# Altium footprint library Zener Diode 30V.PcbLib: 2 footprints
Each footprint in its own frame and in the unit in brackets; x right, y up, seen from the top. Pads: shape width x height; smd on the part's side, far side on the other; paste and mask are expansions set on the pad; w line width, h text height; cw(c..) or ccw(c..) is an arc to the next point about the centre after c.
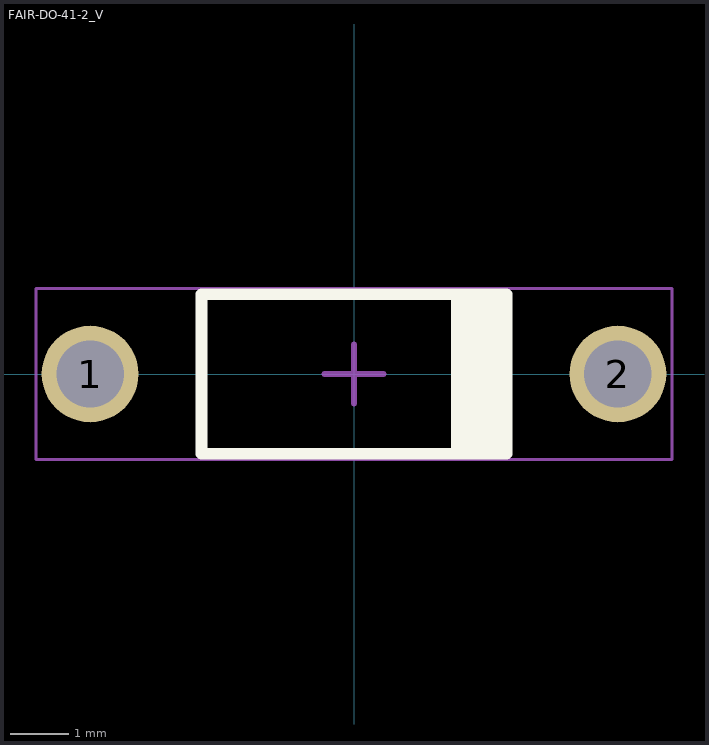
[diagram p0: the footprints below, top view; thin cyan lines are the x and y axes]

## FAIR-DO-41-2_V [mm] "2-Leads, Axial leaded, Body 2.72x5.2mm, Pin Spacing 9mm"
height 2.72
pads (2):
  round 1.65 hole 1.15: 1(-4.5,0) 2(4.5,0)
Top Overlay:
  rectangle: 1.651,-1.357 2.6,1.36
  lines w0.2: -2.6,-1.36 -2.6,1.36 2.6,1.36 2.6,-1.36 -2.6,-1.36
Mechanical 13:
  lines w0.1: -2.6,-1.36 2.6,-1.36 2.6,1.36 -2.6,1.36 -2.6,-1.36
Mechanical 15:
  lines w0.05: -5.425,-1.46 -5.425,1.46 5.425,1.46 5.425,-1.46 -5.425,-1.46
  lines w0.1: -0.5,0 0.5,0 ; 0,-0.5 0,0.5
3D body: height 1.36, standoff -2, extent 4.073,-0.429 4.93,0.429
3D body: height 1.79, standoff 0.93, extent 4.075,-0.428 4.93,0.428
3D body: height 2.71, standoff 0, extent -2.6,-1.357 2.6,1.357
3D body: height 1.79, standoff 0.93, extent 2.6,-0.429 4.5,0.429
3D body: height 1.79, standoff 0.93, extent -4.5,-0.429 -2.6,0.429
3D body: height 1.79, standoff 0.93, extent -4.93,-0.428 -4.075,0.428
3D body: height 1.36, standoff -2, extent -4.93,-0.429 -4.073,0.429

## PCBComponent_1 [mm]